# EAGLE library part LTC1540 (library chips)
LTC Nanopower Comparator with Bandgap reference
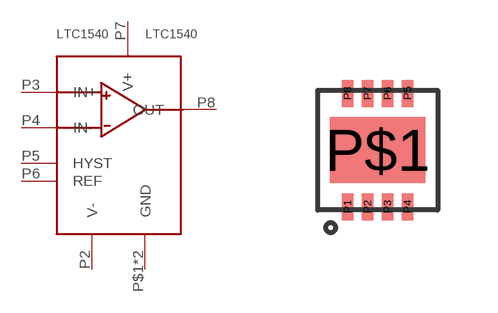
[diagram p31: symbol with the pads of DFN-8; footprint DFN-8]

Designator prefix -

## LTC1540 (DIGIKEY: LTC1540CDD#PBF-ND)  [DFN-8]
P1  GND
P2  V-
P3  IN+
P4  IN-
P5  HYST
P6  REF
P7  V+
P8  OUT
P$1  GND

## Footprint DFN-8 (pad centres in mm)
smd 0.28 x 0.675: P1 0.75,0.08; P2 1.25,0.08; P3 1.75,0.08; P4 2.25,0.08; P5 2.25,2.92; P6 1.75,2.92; P7 1.25,2.92; P8 0.75,2.92
smd 2.38 x 1.65: P$1 1.5,1.5